# Altium footprint library input.PcbLib: 9 footprints
Each footprint in its own frame and in the unit in brackets; x right, y up, seen from the top. Pads: shape width x height; smd on the part's side, far side on the other; paste and mask are expansions set on the pad; w line width, h text height; cw(c..) or ccw(c..) is an arc to the next point about the centre after c.
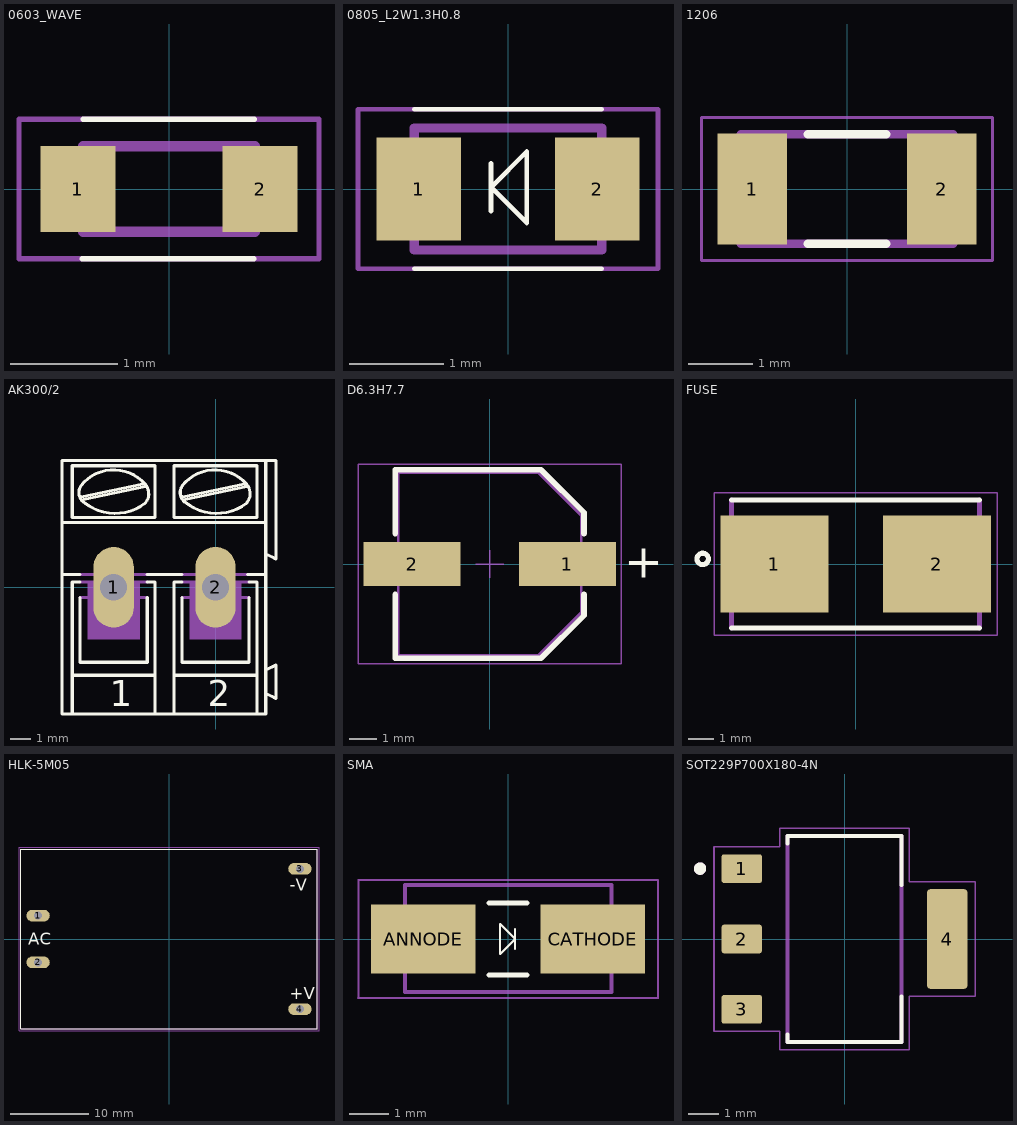
[diagram p0: the footprints below, top view; thin cyan lines are the x and y axes]

## 0603_WAVE [mm] "Ceramic Capacitors, 0603, body 1.6x0.8mm"
height 0.8
pads (2):
  rect 0.7x0.8 smd: 1(-0.85,0) 2(0.85,0)
Top Overlay:
  lines w0.05: -0.809,-0.65 0.791,-0.65 ; -0.802,0.65 0.798,0.65
Mechanical 13:
  lines w0.1: -0.8,-0.4 -0.8,0.4 0.8,0.4 0.8,-0.4 -0.8,-0.4
Mechanical 15:
  lines w0.05: -1.4,-0.65 1.4,-0.65 1.4,0.65 -1.4,0.65 -1.4,-0.65
3D body "1.6x0.8x0.8x0.4.stp": height 0.8, standoff 0, extent -0.8,-0.4 0.8,0.4

## 0805_L2W1.3H0.8 [mm] "SMT Infrared Chip LED Waterclear, body 2x1.3mm"
height 0.8
pads (2):
  rect 0.9x1.1 smd: 1(-0.95,0) 2(0.95,0)
Top Overlay:
  lines w0.05: -1,-0.85 1,-0.85 ; -1,0.85 1,0.85 ; -0.181,-0.235 -0.181,0.273 -0.181,0.019 ; -0.181,0.019 0.2,-0.362 0.2,0.019 0.2,0.4 -0.181,0.019
Mechanical 13:
  circle w0.05: c-0.75,-0.4 r0.1
  lines w0.1: -1,-0.65 1,-0.65 1,0.65 -1,0.65 -1,-0.65
Mechanical 15:
  lines w0.05: -1.6,-0.85 -1.6,0.85 1.6,0.85 1.6,-0.85 -1.6,-0.85
3D body "15408085BA400.stp": height 0.8, standoff 0, extent -1,-0.65 1,0.65

## 1206 [mm]
pads (2):
  rect 1.08x1.72 smd: 1(-1.47,0) 2(1.47,0)
Top Overlay:
  lines w0.127: -0.61,-0.85 0.61,-0.85 ; -0.61,0.85 0.61,0.85
Mechanical 13:
  lines w0.127: -1.65,-0.85 -1.65,0.85 1.65,0.85 1.65,-0.85 -1.65,-0.85
Mechanical 15:
  lines w0.05: -2.262,-1.112 -2.262,1.112 2.262,1.112 2.262,-1.112 -2.262,-1.112
3D body "Resistor 10 Ohm SMT.STEP": height 0.71, standoff 0.01, extent -1.6,-0.8 1.6,0.8

## AK300/2 [mil]
pads (2):
  oval 78x156 hole 52: 1(-197,0) 2(0,0)
Top Overlay:
  lines w6: -297,245 -297,125 -297,25 ; -295,125 97,125 ; -295,245 97,245 ; -262,-20 -262,-145 -132,-145 -132,-20 ; -262,10 -277,10 -277,-170 ; -262,25 -297,25 ; -260,175 -140,200 ; -259.99,197.01 cw(c-197,146) -135.82,199.18 ; -258.08,198.92 ccw(c-241,183) -252.32,162.57 ; -255,170 -135,195 ; -254.44,164.36 ccw(c-194,239) -136.19,162.29 ; -138.1,160.91 ccw(c-156.19,181.01) -136.09,199.1 ; -132,10 -117,10 -117,-170 ; -132,25 -65,25 ; -65,-20 -65,-145 65,-145 65,-20 ; -65,10 -80,10 -80,-170 ; -64,175 56,200 ; -63.99,197.01 cw(c-1,146) 60.18,199.18 ; -62.08,198.92 ccw(c-45,183) -56.32,162.57 ; -59,170 61,195 ; -58.44,164.36 ccw(c2,239) 59.8,162.29 ; 57.9,160.91 ccw(c39.81,181.01) 59.91,199.1 ; 62,25 97,25 ; 65,10 80,10 80,-170 ; 77,-245 97,-245 97,-205 ; -297,25 -297,-245 -277,-245 ; -277,-245 -117,-245 ; -277,-245 -277,-170 ; -277,-170 -117,-170 ; -117,-245 -117,-170 ; -117,-245 -80,-245 ; -80,-245 -80,-170 ; -80,-245 80,-245 80,-170 ; -80,-170 80,-170 ; 97,-205 117,-215 117,-150 97,-160 ; 97,-205 97,-160 ; 97,-160 97,25 ; 97,25 97,65 ; 97,65 117,55 117,245 97,245 ; 97,65 97,125 ; 97,125 97,245 ; -277,135 -117,135 -117,235 -277,235 -277,135 ; -80,135 -80,235 80,235 80,135 -80,135
  text "2" at -15,-230 h50
  text "1" at -205,-230 h50
Mechanical 13:
  region: -147,-100 -247,-100 -247,10 -147,10
  region: 50,-100 -50,-100 -50,10 50,10
  lines w6: -262,-20 -247,-20 ; -262,10 -132,10 ; -262,25 -132,25 ; -147,-20 -132,-20 ; -65,-20 -50,-20 ; -65,10 65,10 ; -65,25 65,25 ; 50,-20 65,-20
3D body "DG300-5.0-02P-12-00AH.STEP": height 496.06, standoff -173.23, extent -319.04,-157.47 98.28,196.86

## D6.3H7.7 [mm] "Aluminium Electrolytic V-Chip SMT Capacitors, 6.3x7.7mm"
height 7.7
pads (2):
  rect 3.5x1.6 smd: 1(2.8,0) 2(-2.8,0)
Top Overlay:
  lines w0.2: -3.4,-1.1 -3.4,-3.4 1.85,-3.4 3.4,-1.85 3.4,-1.1 ; -3.4,1.1 -3.4,3.4 1.85,3.4 3.4,1.85 3.4,1.1
  text "+" at 4.85,-0.5 h1.22
Mechanical 11:
  lines w0.1: -3.3,-3.3 1.75,-3.3 3.3,-1.75 3.3,1.75 1.75,3.3 -3.3,3.3 -3.3,-3.3
  text ".Designator" at -2.5,-0.75 h1.5
Mechanical 15:
  lines w0.05: -0.5,0 0.5,0 ; 0,-0.5 0,0.5 ; -4.75,-3.6 -4.75,3.6 4.75,3.6 4.75,-3.6 -4.75,-3.6
3D body "6.3x7.7x2.2.stp": height 7.7, standoff 0, extent -3.65,-3.3 3.65,3.3

## FUSE [mm]
pads (2):
  rect 4.24x3.81 smd: 1(-3.19,0) 2(3.19,0)
Top Overlay:
  circle w0.2: c-6,0.2 r0.224
  lines w0.2: -4.863,-2.515 4.863,-2.515 ; -4.863,2.515 4.863,2.515
Mechanical 13:
  lines w0.2: -4.863,-2.515 -4.863,2.515 ; 4.863,-2.515 4.863,2.515
Mechanical 15:
  lines w0.05: -5.55,-2.8 -5.55,2.8 5.55,2.8 5.55,-2.8 -5.55,-2.8
3D body "Fuse SMT.STEP": height 3.81, standoff 0, extent -4.865,-2.642 4.865,2.388

## HLK-5M05 [mm]
pads (4):
  oval 3x1.5 hole 1: 1(-16.8,3) 2(-16.8,-3) 3(16.8,9) 4(16.8,-9)
Top Overlay:
  lines w0.127: -19,-11.5 19,-11.5 19,11.5 -19,11.5 -19,-11.5
  text "AC" at -18.034,-0.762 h1.52
  text "-V" at 15.494,6.223 h1.52
  text "+V" at 15.494,-7.747 h1.52
Mechanical 13:
  lines w0.127: -19,-11.5 -19,11.5 19,11.5 19,-11.5 -19,-11.5
Mechanical 15:
  lines w0.05: -19.25,-11.75 -19.25,11.75 19.25,11.75 19.25,-11.75 -19.25,-11.75
3D body "Ac to DC Transformer (HLK-5M05).STEP": height 18, standoff -5, extent -19,-11.5 19,11.5

## SMA [mm]
pads (2):
  rect 2.65x1.75 smd: ANNODE(-2.15,0) CATHODE(2.15,0)
Top Overlay:
  lines w0.05: 0.178,-0.254 0.178,0.254 0.178,0 ; 0.178,0 -0.203,0.381 -0.203,0 -0.203,-0.381 0.178,0
  lines w0.127: -0.483,-0.914 0.483,-0.914 ; -0.483,0.914 0.483,0.914
Mechanical 13:
  lines w0.1: -2.616,-1.346 2.616,-1.346 2.616,1.372 -2.616,1.372 -2.616,-1.346
Mechanical 15:
  lines w0.05: -3.81,-1.5 -3.8,-1.49 -3.8,1.499 -3.799,1.5 3.8,1.5 3.8,-1.499 3.799,-1.5 -3.81,-1.5
3D body "Diode SMT.STEP": height 2.7, standoff 0, extent -2.6,-1.362 2.6,1.362

## SOT229P700X180-4N [mm]
pads (4):
  rrect15% 1.31x0.93 smd: 1(-3.345,2.29) 2(-3.345,0) 3(-3.345,-2.29)
  rrect15% 1.31x3.24 smd: 4(3.345,0)
Top Overlay:
  circle w0.2: c-4.703,2.29 r0.1
  lines w0.127: -1.86,-3.11 -1.86,-3.36 1.86,-3.36 1.86,-1.87 ; -1.86,3.1 -1.86,3.36 1.86,3.36 1.86,1.76
Mechanical 13:
  circle w0.2: c-4.703,2.29 r0.1
  lines w0.127: -1.86,-3.36 -1.86,3.36 1.86,3.36 1.86,-3.36 -1.86,-3.36
Mechanical 15:
  lines w0.05: -4.25,-3.01 -2.11,-3.01 -2.11,-3.61 2.11,-3.61 2.11,-1.87 4.25,-1.87 4.25,1.87 2.11,1.87 2.11,3.61 -2.11,3.61 -2.11,3.01 -4.25,3.01 -4.25,-3.01
3D body "AMS1117.STEP": height 1.75, standoff -0.05, extent -3.499,-3.251 3.499,3.251